# Altium schematic symbol library Diode_Microsemi_1N5825_eec.SchLib: 1 symbol
Pins are listed as number, name and electrical type; pins without a type are passive.

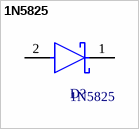
[diagram p0: symbol 1N5825]

## 1N5825
designator D?  (value not drawn)
footprint Microsemi_1N5825_0
pins: 1 C, 2 A